# EAGLE library part QUAD-OPAMP (library Skoba)
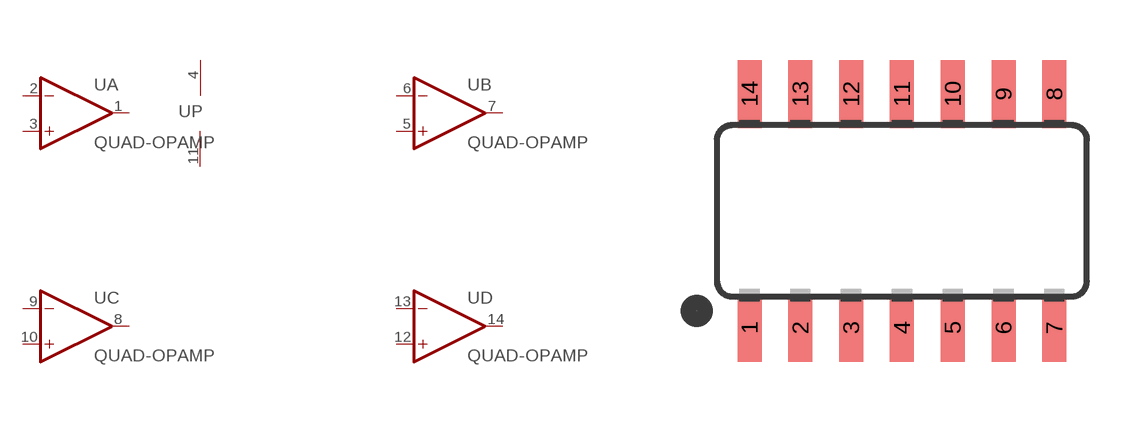
[diagram p46: symbol with the pads of SO14; footprint SO14]

Designator prefix U; gates A=OP-AMP B=OP-AMP C=OP-AMP D=OP-AMP P=PWRN

## QUAD-OPAMP  [SO14]
1  A:OUT  out
2  A:-IN  in
3  A:+IN  in
4  P:VCC  pwr
5  B:+IN  in
6  B:-IN  in
7  B:OUT  out
8  C:OUT  out
9  C:-IN  in
10  C:+IN  in
11  P:GND  pwr
12  D:+IN  in
13  D:-IN  in
14  D:OUT  out

## Footprint SO14 (pad centres in mm)
smd 0.6 x 1.7: 1 -3.175,-2.925; 2 -1.905,-2.925; 3 -0.635,-2.925; 4 0.635,-2.925; 5 1.905,-2.925; 6 3.175,-2.925; 7 4.445,-2.925; 8 4.445,2.925; 9 3.175,2.925; 10 1.905,2.925; 11 0.635,2.925; 12 -0.635,2.925; 13 -1.905,2.925; 14 -3.175,2.925